# EAGLE library part ADUM1240 (library custom)
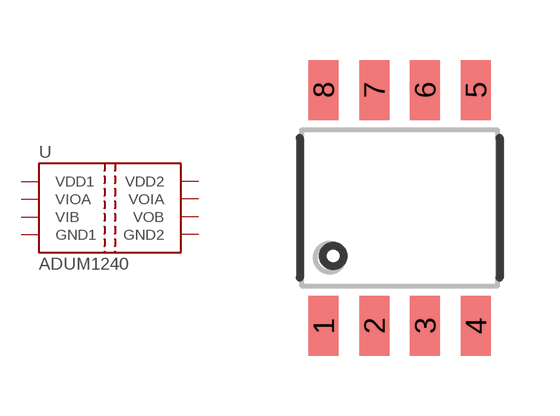
[diagram p124: symbol with the pads of 8-SOIC; footprint 8-SOIC]

Designator prefix U

## ADUM1240  [8-SOIC]
1  VDD1
2  VIOA
3  VIB
4  GND1
5  GND2
6  VOB
7  VOIA
8  VDD2

## Footprint 8-SOIC (pad centres in mm)
smd 0.75 x 1.5: 1 -1.905,-2.95; 2 -0.635,-2.95; 3 0.635,-2.95; 4 1.905,-2.95; 5 1.905,2.95; 6 0.635,2.95; 7 -0.635,2.95; 8 -1.905,2.95